# Altium schematic symbol library W25Q128JVPIQ_TR.SchLib: 1 symbol
Pins are listed as number, name and electrical type; pins without a type are passive.

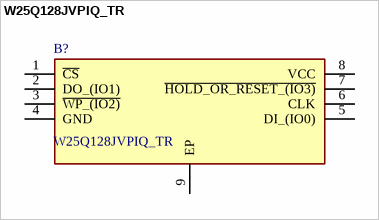
[diagram p0: symbol W25Q128JVPIQ_TR]

## W25Q128JVPIQ_TR
designator B?
NOR Flash spiFlash, 3V, 128M-bit, 4Kb Uniform Sector; Manufacturer_Name: Winbond; Manufacturer_Part_Number: W25Q128JVPIQ TR; Geometry.Height: 0.8mm; Mouser Part Number: 454-W25Q128JVPIQTR; Mouser Price/Stock: https://www.mouser.co.uk/ProductDetail/Winbond/W25Q128JVPIQ-TR?qs=qSfuJ%252Bfl%2Fd6H7vbXyrDu3w%3D%3D; Datasheet Link: https://www.winbond.com/resource-files/w25q128jv%20revf%2003272018%20plus.pdf
footprint SON127P600X500X80-9N-D
pins: 1 ~{CS}, 2 DO_(IO1), 3 ~{WP_(IO2)}, 4 GND, 5 DI_(IO0), 6 CLK, 7 ~{HOLD_OR_RESET_(IO3)}, 8 VCC, 9 EP